# Altium schematic symbol library SCHKU.SchLib: 19 symbols
Pins are listed as number, name and electrical type; pins without a type are passive.

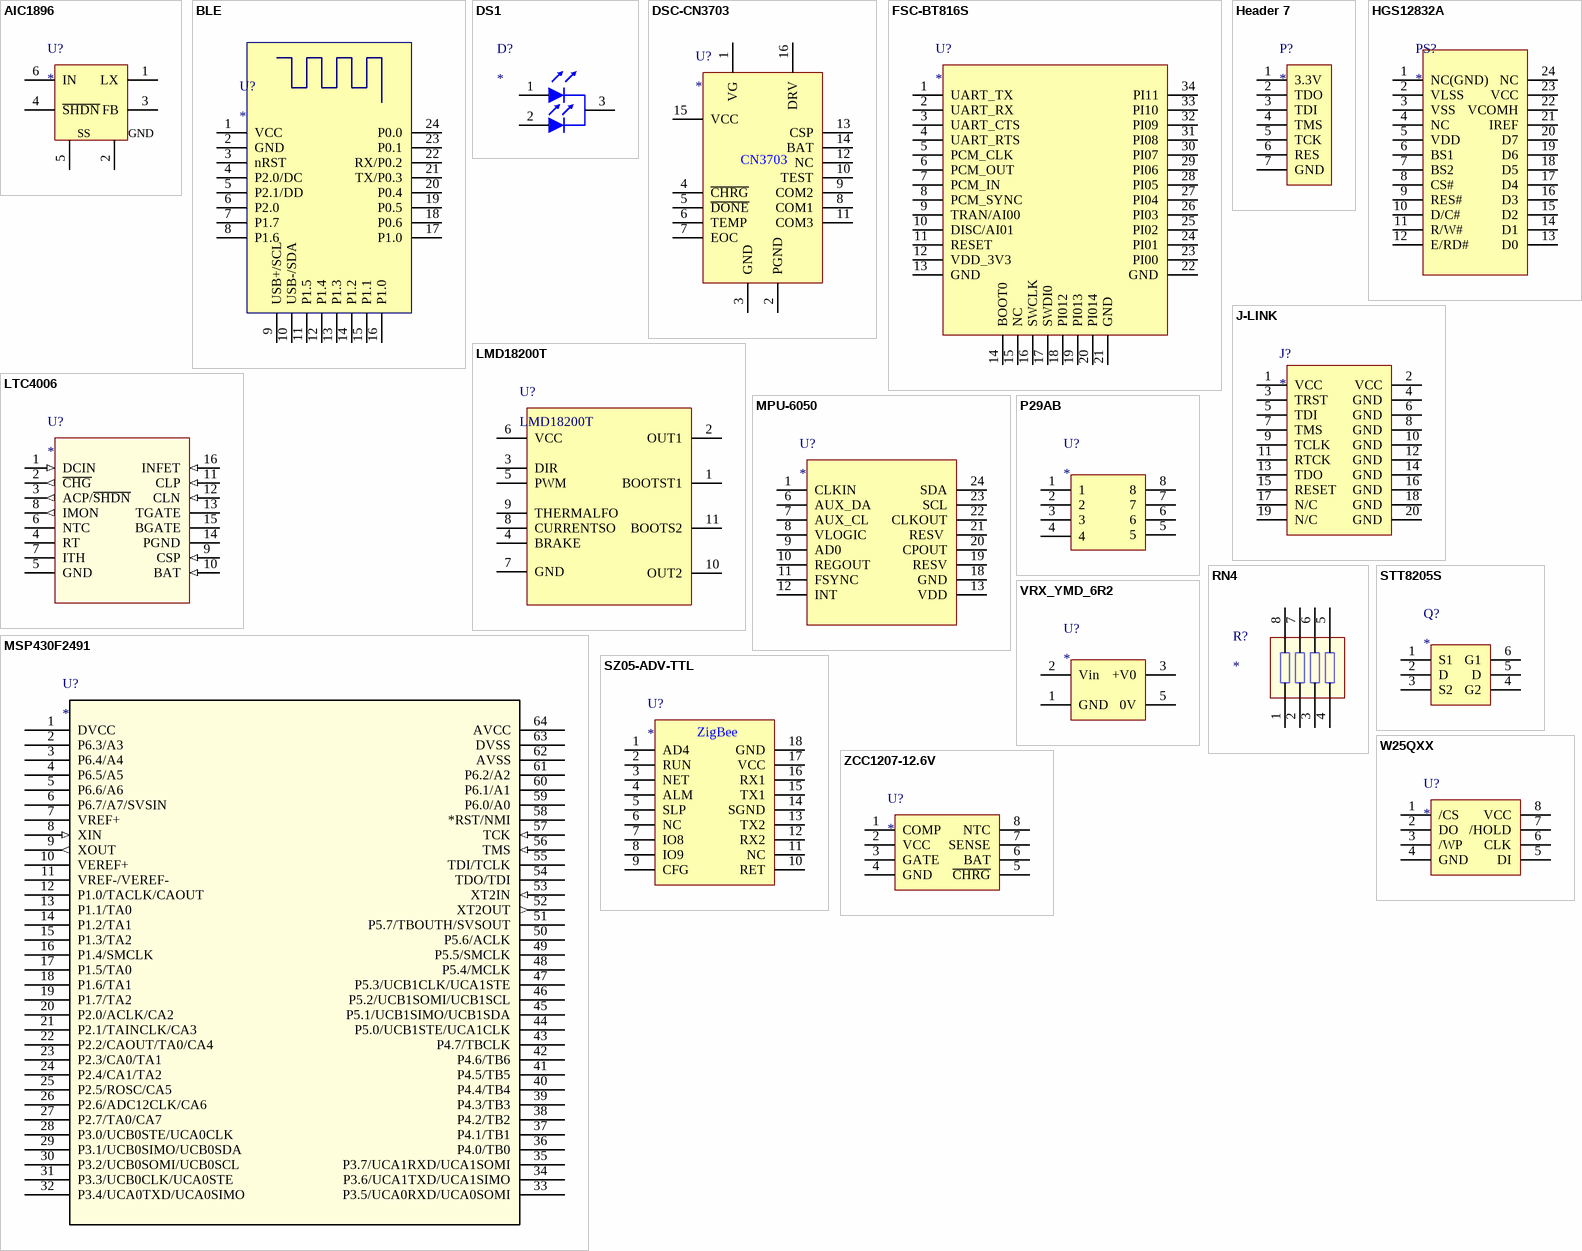
[diagram p0: symbols AIC1896 to ZCC1207-12.6V]

## AIC1896
designator U?
pins: 1 LX, 2 GND, 3 FB, 4 ~{SHDN}, 5 SS, 6 IN

## BLE
designator U?
pins: 1 VCC, 2 GND, 3 nRST, 4 P2.0/DC, 5 P2.1/DD, 6 P2.0, 7 P1.7, 8 P1.6, 9 USB+/SCL, 10 USB-/SDA, 11 P1.5, 12 P1.4, 13 P1.3, 14 P1.2, 15 P1.1, 16 P1.0, 17 P1.0, 18 P0.6, 19 P0.5, 20 P0.4, 21 TX/P0.3, 22 RX/P0.2, 23 P0.1, 24 P0.0

## DS1
designator D?
pins: 1, 2, 3

## DSC-CN3703
designator U?
pins: 1 VG, 2 PGND, 3 GND, 4 ~{CHRG}, 5 ~{DONE}, 6 TEMP, 7 EOC, 8 COM1, 9 COM2, 10 TEST, 11 COM3, 12 NC, 13 CSP, 14 BAT, 15 VCC, 16 DRV
text: CN3703

## FSC-BT816S
designator U?
pins: 1 UART_TX, 2 UART_RX, 3 UART_CTS, 4 UART_RTS, 5 PCM_CLK, 6 PCM_OUT, 7 PCM_IN, 8 PCM_SYNC, 9 TRAN/AI00, 10 DISC/AI01, 11 RESET, 12 VDD_3V3, 13 GND, 14 BOOT0, 15 NC, 16 SWCLK, 17 SWDI0, 18 PI012, 19 PI013, 20 PI014, 21 GND, 22 GND, 23 PI00, 24 PI01, 25 PI02, 26 PI03, 27 PI04, 28 PI05, 29 PI06, 30 PI07, 31 PI08, 32 PI09, 33 PI10, 34 PI11

## Header 7
designator P?
pins: 1 3.3V, 2 TDO, 3 TDI, 4 TMS, 5 TCK, 6 RES, 7 GND

## HGS12832A
designator PS?
pins: 1 NC(GND), 2 VLSS, 3 VSS, 4 NC, 5 VDD, 6 BS1, 7 BS2, 8 CS#, 9 RES#, 10 D/C#, 11 R/W#, 12 E/RD#, 13 D0, 14 D1, 15 D2, 16 D3, 17 D4, 18 D5, 19 D6, 20 D7, 21 IREF, 22 VCOMH, 23 VCC, 24 NC

## J-LINK
designator J?
pins: 1 VCC, 2 VCC, 3 TRST, 4 GND, 5 TDI, 6 GND, 7 TMS, 8 GND, 9 TCLK, 10 GND, 11 RTCK, 12 GND, 13 TDO, 14 GND, 15 RESET, 16 GND, 17 N/C, 18 GND, 19 N/C, 20 GND

## LMD18200T
designator U?
pins: 1 BOOTST1, 2 OUT1, 3 DIR, 4 BRAKE, 5 PWM, 6 VCC, 7 GND, 8 CURRENTSO, 9 THERMALFO, 10 OUT2, 11 BOOTS2

## LTC4006
designator U?
pins: 1 DCIN (in), 2 ~{CHG} (out), 3 ACP/~{SHDN} (out), 4 RT, 5 GND (power), 6 NTC, 7 ITH, 8 IMON (out), 9 CSP (in), 10 BAT (in), 11 CLP (in), 12 CLN (in), 13 TGATE, 14 PGND (power), 15 BGATE, 16 INFET (in)

## MPU-6050
designator U?
pins: 1 CLKIN, 6 AUX_DA, 7 AUX_CL, 8 VLOGIC, 9 AD0, 10 REGOUT, 11 FSYNC, 12 INT, 13 VDD, 18 GND, 19 RESV, 20 CPOUT, 21 RESV , 22 CLKOUT, 23 SCL, 24 SDA

## MSP430F2491
designator U?
pins: 1 DVCC (power), 2 P6.3/A3, 3 P6.4/A4, 4 P6.5/A5, 5 P6.6/A6, 6 P6.7/A7/SVSIN, 7 VREF+ (power), 8 XIN (in), 9 XOUT (out), 10 VEREF+ (power), 11 VREF-/VEREF- (power), 12 P1.0/TACLK/CAOUT, 13 P1.1/TA0, 14 P1.2/TA1, 15 P1.3/TA2, 16 P1.4/SMCLK, 17 P1.5/TA0, 18 P1.6/TA1, 19 P1.7/TA2, 20 P2.0/ACLK/CA2, 21 P2.1/TAINCLK/CA3, 22 P2.2/CAOUT/TA0/CA4, 23 P2.3/CA0/TA1, 24 P2.4/CA1/TA2, 25 P2.5/ROSC/CA5, 26 P2.6/ADC12CLK/CA6, 27 P2.7/TA0/CA7, 28 P3.0/UCB0STE/UCA0CLK, 29 P3.1/UCB0SIMO/UCB0SDA, 30 P3.2/UCB0SOMI/UCB0SCL, 31 P3.3/UCB0CLK/UCA0STE, 32 P3.4/UCA0TXD/UCA0SIMO, 33 P3.5/UCA0RXD/UCA0SOMI, 34 P3.6/UCA1TXD/UCA1SIMO, 35 P3.7/UCA1RXD/UCA1SOMI, 36 P4.0/TB0, 37 P4.1/TB1, 38 P4.2/TB2, 39 P4.3/TB3, 40 P4.4/TB4, 41 P4.5/TB5, 42 P4.6/TB6, 43 P4.7/TBCLK, 44 P5.0/UCB1STE/UCA1CLK, 45 P5.1/UCB1SIMO/UCB1SDA, 46 P5.2/UCB1SOMI/UCB1SCL, 47 P5.3/UCB1CLK/UCA1STE, 48 P5.4/MCLK, 49 P5.5/SMCLK, 50 P5.6/ACLK, 51 P5.7/TBOUTH/SVSOUT, 52 XT2OUT (out), 53 XT2IN (in), 54 TDO/TDI, 55 TDI/TCLK, 56 TMS (in), 57 TCK (in), 58 *RST/NMI, 59 P6.0/A0, 60 P6.1/A1, 61 P6.2/A2, 62 AVSS (power), 63 DVSS (power), 64 AVCC (power)

## P29AB
designator U?
pins: 1, 2, 3, 4, 5, 6, 7, 8

## RN4
designator R?
pins: 1, 2, 3, 4, 5, 6, 7, 8

## STT8205S
designator Q?
pins: 1 S1, 2 D, 3 S2, 4 G2, 5 D, 6 G1

## SZ05-ADV-TTL
designator U?
pins: 1 AD4, 2 RUN, 3 NET, 4 ALM, 5 SLP, 6 NC, 7 IO8, 8 IO9, 9 CFG, 10 RET, 11 NC, 12 RX2, 13 TX2, 14 SGND, 15 TX1, 16 RX1, 17 VCC, 18 GND
text: ZigBee

## VRX_YMD_6R2
designator U?
pins: 1 GND, 2 Vin, 3 +V0, 5 0V

## W25QXX
designator U?
pins: 1 /CS, 2 DO, 3 /WP, 4 GND, 5 DI, 6 CLK, 7 /HOLD, 8 VCC

## ZCC1207-12.6V
designator U?
pins: 1 COMP, 2 VCC, 3 GATE, 4 GND, 5 ~{CHRG}, 6 BAT, 7 SENSE, 8 NTC